# Altium integrated library IntegrateLib.IntLib: 11 symbols
Pins are listed as number, name and electrical type; pins without a type are passive.

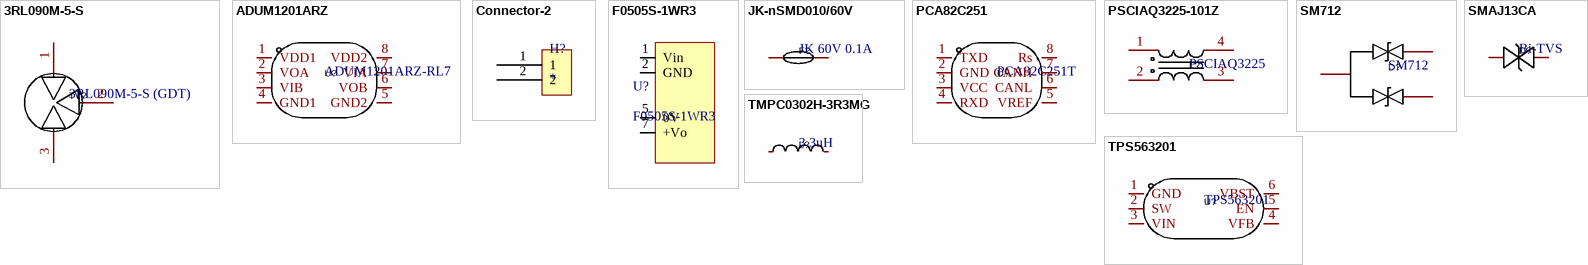
[diagram p0: symbols 3RL090M-5-S to TPS563201]

## 3RL090M-5-S
designator TV?, comment 3RL090M-5-S (GDT)
Gas Discharge Tube; Manufacturer: Brightking(君耀电子); Add into BOM: yes; Number of Poles: 3; DC Spark-over Voltage: 90V; Tolerance: ±20%; Nominal Impulse Discharge Current: 5kA; Maximum Capacitance @ 1MHz: 2pF; Name: 3RL090M-5-S; Symbol: 3RL090M-5-S; Device: 3RL090M-5-S; LCSC Part Name: 90V 5kA 3端贴片GDT; Supplier Part: C78322; Manufacturer Part: 3RL090M-5-S; Supplier Footprint: SMD,5x6.6mm; JLCPCB Part Class: Extended Part; Datasheet: https://atta.szlcsc.com/upload/public/pdf/source/20160709/1468031850741.pdf; Supplier: LCSC; Convert to PCB: yes
footprint DIO-DT-SMD
pins: 1, 2, 3

## ADUM1201ARZ
designator U?, comment ADUM1201ARZ-RL7
Digital Isolator; Manufacturer: ADI(亚德诺)/LINEAR(凌特); Add into BOM: yes; Isolation Technology: 磁隔离; Number of Channels: 2; Forward Channel: 1; Voltage Isolation or Not: 带电压隔离; Isolation voltage: 2500Vrms; Data Rate: 1Mbps; Supply Voltage: 2.7V~5.5V; Name: ADUM1201ARZ-RL7; Symbol: ADUM1201ARZ-RL7; Device: ADUM1201ARZ-RL7; LCSC Part Name: ADUM1201ARZ-RL7; Supplier Part: C9669; Manufacturer Part: ADUM1201ARZ-RL7; Supplier Footprint: SOIC-8; JLCPCB Part Class: Basic Part; Datasheet: https://atta.szlcsc.com/upload/public/pdf/source/20121103/1457706544769.pdf; Supplier: LCSC; Convert to PCB: yes; Applications: 通用; Reverse channel: 1; Operating Temperature: -55℃~+100℃
footprint SOP-8
pins: 1 VDD1, 2 VOA, 3 VIB, 4 GND1, 5 GND2, 6 VOB, 7 VIA, 8 VDD2

## Connector-2
designator H?
Two pin connector.
footprint CONNECT_PAD
pins: 1, 2

## F0505S-1WR3
designator U?
MORNSUN Isolation Power supply
footprint F_S-1WR3
pins: 1 Vin, 2 GND, 5 0V, 7 +Vo

## JK-nSMD010/60V
designator F?, comment JK 60V 0.1A
Resettable Fuse; Manufacturer: JK(金科); Name: JK-nSMD010/60V; Add into BOM: yes; Symbol: JK-NSMD010/60V; Device: JK-nSMD010/60V; LCSC Part Name: 100mA 60V; Supplier Part: C2830236; Manufacturer Part: JK-nSMD010/60V; Supplier Footprint: SMD1206; JLCPCB Part Class: Extended Part; Datasheet: https://atta.szlcsc.com/upload/public/pdf/source/20210427/C2830251_B9511B640A50AD6A91174E2DDDD254CA.pdf; Supplier: LCSC; Convert to PCB: yes
footprint F1206
3D model F1206_L3.2-W1.7-H0.6
pins: 1, 2

## PCA82C251
designator U?, comment PCA82C251T
CAN transceiver; Manufacturer: Tokmas(托克马斯); Add into BOM: yes; Name: PCA82C251T; Symbol: PCA82C251T; Device: PCA82C251T; LCSC Part Name: PCA82C251T; Supplier Part: C7432796; Manufacturer Part: PCA82C251T; Supplier Footprint: SOP-8; Datasheet: https://atta.szlcsc.com/upload/public/pdf/source/20230625/276DDB82A8AA19CE4785C79DB2491288.pdf; Supplier: LCSC; Convert to PCB: yes; link: https://atta.szlcsc.com/upload/public/pdf/source/20230621/1484E0AD24B83654AF18D5B601DFC963.pdf
footprint SOP-8
pins: 1 TXD, 2 GND, 3 VCC, 4 RXD, 5 VREF, 6 CANL, 7 CANH, 8 Rs

## PSCIAQ3225-101Z
designator L?, comment PSCIAQ3225
Common mode choke - 5.1KOhm @ 10Mhz; Manufacturer: PROD(谱罗德); Name: PSCIAQ3225-101Z; Add into BOM: yes; Number of Lines: 2; Impedance @ Frequency: 5.1kΩ@10MHz; Inductance @ Frequency: 100uH@100kHz; Current Rating: 150mA; DC Resistance (DCR): 1.5Ω; Voltage Rating - DC: 80V; Voltage Rating: 80VAC; Symbol: PSCIAQ3225-101Z; Device: PSCIAQ3225-101Z; LCSC Part Name: 两路 1210共模滤波器 阻抗5.1kΩ@10MHz; Supplier Part: C3011568; Manufacturer Part: PSCIAQ3225-101Z; Supplier Footprint: 1210; JLCPCB Part Class: Extended Part; Datasheet: https://atta.szlcsc.com/upload/public/pdf/source/20221209/0F115E7BC87283E32C2A7BCB65AC9CDC.pdf; Supplier: LCSC; Convert to PCB: yes; Operating Temperature: -25℃~+105℃; Withstanding Voltage: 80V
footprint FILTER-SMD_4P
pins: 1, 2, 3, 4

## SM712
designator D?
Dual channel ESD discharger; Manufacturer: TECH PUBLIC(台舟); Symbol: SM712_C521963; Add into BOM: yes; Name: SM712; Device: SM712_C521963; LCSC Part Name: SM712; Supplier Part: C521963; Manufacturer Part: SM712; Supplier Footprint: SOT-23; JLCPCB Part Class: Extended Part; Datasheet: https://atta.szlcsc.com/upload/public/pdf/source/20210810/E76C7C1824B0CB2A5B8963B3ABCE2DCE.pdf; Supplier: LCSC; Convert to PCB: yes
footprint SOT-23-3
pins: 1, 2, 3

## SMAJ13CA
designator D?, comment Bi-TVS
Bidirectional TVS; Manufacturer: Slkor(萨科微); Name: SMAJ13CA; Symbol: SMAJ13CA_C513473; Add into BOM: yes; Polarity: 双向; Reverse Stand-Off Voltage (Vrwm): 13V; Breakdown Voltage: 14.4V; Peak Pulse Current (Ipp)@10/1000μs: 18.6A; Maximum Clamping Voltage: 21.5V; Device: SMAJ13CA_C513473; LCSC Part Name: 双向 Vrwm:13V; Supplier Part: C513473; Manufacturer Part: SMAJ13CA; Supplier Footprint: SMA; JLCPCB Part Class: Extended Part; Datasheet: https://atta.szlcsc.com/upload/public/pdf/source/20200414/C513473_E63E0FD439519C3FF443B186760FCA0C.pdf; Supplier: LCSC; Convert to PCB: yes
footprint SMA-BI
pins: 1 C, 2 A

## TMPC0302H-3R3MG
designator L?, comment 3.3uH
SMD power inductor 3.3uH; Manufacturer: TAI-TECH(台庆); Symbol: TMPC0302H-3R3MG; Add into BOM: yes; Tolerance: ±20%; Rated Current: 3A; DC Resistance (DCR): 125mΩ; Name: 3.3uH; Device: TMPC0302H-3R3MG; LCSC Part Name: 3.3uH ±20% 3A 125mΩ; Supplier Part: C305200; Manufacturer Part: TMPC0302H-3R3MG; Supplier Footprint: SMD; JLCPCB Part Class: Extended Part; Datasheet: https://atta.szlcsc.com/upload/public/pdf/source/20200917/C305200_025B938FDDD8216CB9AF20170083C431.pdf; Supplier: LCSC; Convert to PCB: yes; Value: 3.3uH
footprint IND-SMD_L3.5-W3.2
3D model IND-SMD_L3.5-W3.2-H0.8
pins: 1, 2

## TPS563201
designator U?
DCDC In 4.5V~17V Out 768mV~7V 3A; Manufacturer: TI(德州仪器); Name: TPS563201DDCR; Add into BOM: yes; Function: 降压型; Synchronous Rectification: 是; Output Type: 可调; Number of Outputs: 1; Topology: 降压式; Switching Frequency: 580kHz; Symbol: TPS563201DDCR; Device: TPS563201DDCR; LCSC Part Name: 降压型 Vin=4.5V~17V Vout=768mV~7V 3A; Supplier Part: C116592; Manufacturer Part: TPS563201DDCR; Supplier Footprint: SOT-23-Thin-6; JLCPCB Part Class: Extended Part; Datasheet: https://atta.szlcsc.com/upload/public/pdf/source/20170707/1499421477081.pdf; Supplier: LCSC; Convert to PCB: yes; Input Voltage: 4.5V~17V; Output Voltage: 768mV~7V; Output Current (Max): 3A; Operating Temperature: -40℃~+125℃@(TJ)
footprint SOT-23-6
pins: 1 GND, 2 SW, 3 VIN, 4 VFB, 5 EN, 6 VBST